# Altium integrated library TI Audio CODEC.IntLib: 199 symbols (part 15 of 17)
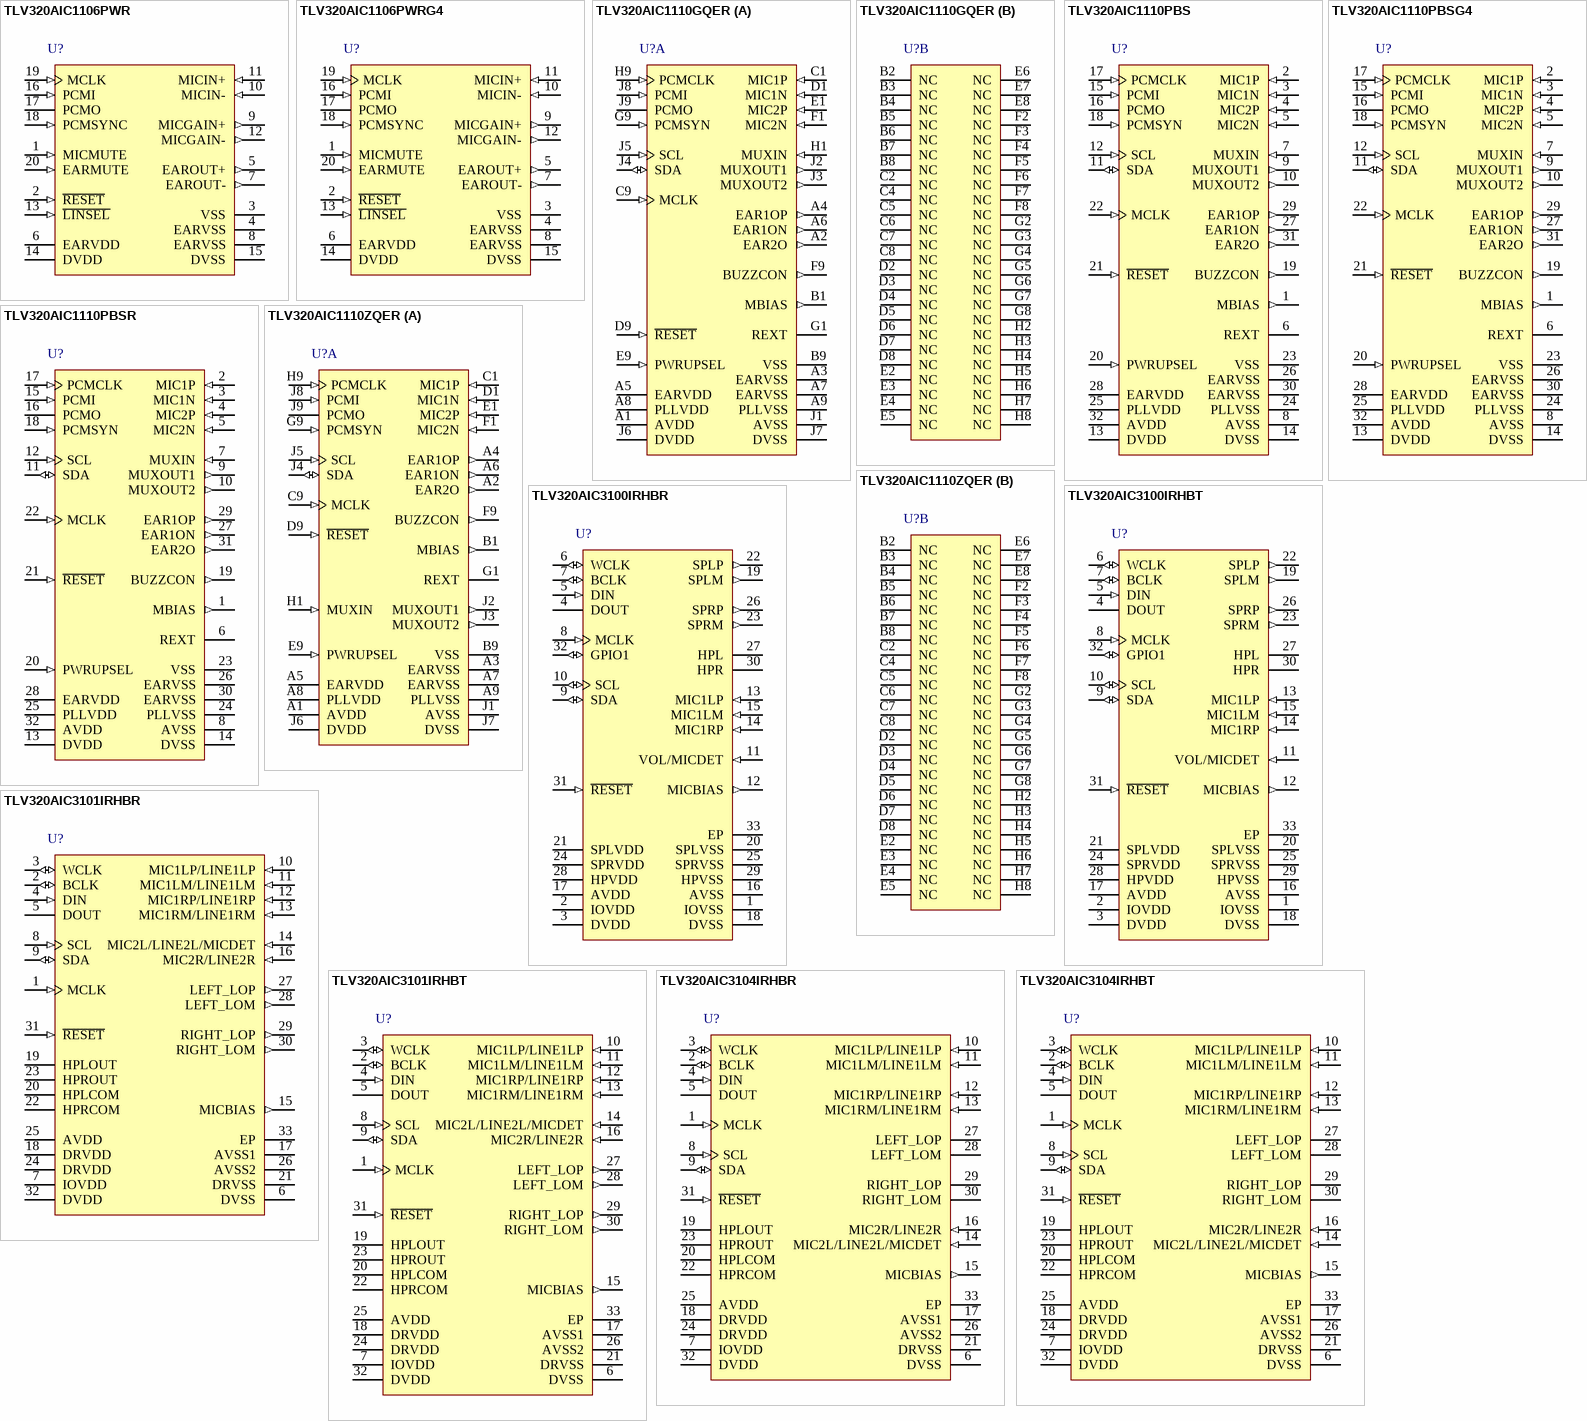
[diagram p27: symbols TLV320AIC1106PWR to TLV320AIC3104IRHBT]

## TLV320AIC1110GQER
designator U?
Programmable PCM CODEC with Microphone Amps & Speaker Driver, 1 ADC and 1 DAC, -40 to 85 degC, 80-pin BGA MICROSTAR JUNIOR (GQE); Manufacturer: Texas Instruments; PartNumber: TLV320AIC1110GQER; # ADCs (typ): 1; Additional Features: A-Law, u-Law; Battery Powered: TRUE; Control Interface: I2C; Sampling Rate (Max) (kHz): 8; DatasheetVersion: SLAS359; PackageVersion: Oct-2005; PackageReference: GQE80; PackageDescription: 80-Ball Plastic Ball Grid Array, 5 x 5 mm Body, 0.5 mm Pitch; Supplier 1: Digi-Key; Supplier Part Number 1: 296-12710-2-ND; Supplier 2: Digi-Key; Supplier Part Number 2: 296-12710-1-ND; Supplier 3: Digi-Key; Supplier Part Number 3: 296-12710-6-ND; Supplier 4: Newark; Supplier Part Number 4: 76C8706; Supplier 5: Mouser; Supplier Part Number 5: 595-TLV320AIC1110GQE; # DACs: 1; Digital Audio Interfaces: PCM; Headphone Driver: TRUE; Mounting Technology: Surface Mount; Code_JEDEC: MO-225; ComponentLink1Description: Datasheet; ComponentLink1URL: http://www.ti.com/general/docs/lit/getliterature.tsp?genericPartNumber=TLV320AIC1110&fileType=pdf
footprint GQE80 (BGA, 80-Leads, Body 5x5mm, Pitch 0.5mm)
part A pins: A1 AVDD (power) "Analog positive power supply", A2 EAR2O (out) "Earphone 2 amplifier output", A3 EARVSS (power) "Analog negative power supply for the earphone amplifiers", A4 EAR1OP (out) "Earphone 1 amplifier output (+)", A5 EARVDD (power) "Analog positive power supply for the earphone amplifiers", A6 EAR1ON (out) "Earphone 1 amplifier output (-)", A7 EARVSS (power) "Analog negative power supply for the earphone amplifiers", A8 PLLVDD (power) "PLL digital power supply", A9 PLLVSS (power) "PLL negative power supply", B1 MBIAS (out) "Microphone bias supply output, no decoupling capacitors", B9 VSS (power) "Ground return for bandgap internal reference (use for ground connection)", C1 MIC1P (in) "MIC1 input (+)", C9 MCLK (in) "Master system clock input (2.048 MHz, digital)", D1 MIC1N (in) "MIC1 input (-)", D9 ~{RESET} (in) "Active low reset", E1 MIC2P (in) "MIC2 input (+)", E9 PWRUPSEL (in) "Selects the power-up default mode", F1 MIC2N (in) "MIC2 input (-)", F9 BUZZCON (out) "Buzzer output, a pulse-density modulated signal to apply to external buzzer driver", G1 REXT "Internal reference current setting terminal (use precision 100-k ohm resistor and no filtering capacitors)", G9 PCMSYN (in) "PCM frame sync", H1 MUXIN (in) "Analog MUX input", H9 PCMCLK (in) "PCM data clock", J1 AVSS (power) "Analog negative power supply (use for ground connection)", J2 MUXOUT1 (out) "Analog MUX output", J3 MUXOUT2 (out) "Analog MUX output", J4 SDA (io) "I2C-bus serial address/data input/output. This is a bidirectional terminal used to transfer register control addresses and data into and out of the codec. It is an open-drain terminal and therefore requires a pullup resistor (See Datasheet)", J5 SCL (in) "I2C-bus serial clock. This input is used to synchronize the data transfer from and to the PCM codec.", J6 DVDD (power) "Digital positive power supply", J7 DVSS (power) "Digital negative power supply", J8 PCMI (in) "Receive PCM input", J9 PCMO (hiz) "Transmit PCM output"
part B pins: B2 NC "No internal connection", B3 NC "No internal connection", B4 NC "No internal connection", B5 NC "No internal connection", B6 NC "No internal connection", B7 NC "No internal connection", B8 NC "No internal connection", C2 NC "No internal connection", C4 NC "No internal connection", C5 NC "No internal connection", C6 NC "No internal connection", C7 NC "No internal connection", C8 NC "No internal connection", D2 NC "No internal connection", D3 NC "No internal connection", D4 NC "No internal connection", D5 NC "No internal connection", D6 NC "No internal connection", D7 NC "No internal connection", D8 NC "No internal connection", E2 NC "No internal connection", E3 NC "No internal connection", E4 NC "No internal connection", E5 NC "No internal connection", E6 NC "No internal connection", E7 NC "No internal connection", E8 NC "No internal connection", F2 NC "No internal connection", F3 NC "No internal connection", F4 NC "No internal connection", F5 NC "No internal connection", F6 NC "No internal connection", F7 NC "No internal connection", F8 NC "No internal connection", G2 NC "No internal connection", G3 NC "No internal connection", G4 NC "No internal connection", G5 NC "No internal connection", G6 NC "No internal connection", G7 NC "No internal connection", G8 NC "No internal connection", H2 NC "No internal connection", H3 NC "No internal connection", H4 NC "No internal connection", H5 NC "No internal connection", H6 NC "No internal connection", H7 NC "No internal connection", H8 NC "No internal connection"

## TLV320AIC1110PBS
designator U?
Programmable PCM CODEC with Microphone Amps & Speaker Driver, 1 ADC and 1 DAC, -40 to 85 degC, 32-pin TQFP (PBS), Green (RoHS & no Sb/Br); Manufacturer: Texas Instruments; PartNumber: TLV320AIC1110PBS; # ADCs (typ): 1; Additional Features: A-Law, u-Law; Battery Powered: TRUE; Control Interface: I2C; Sampling Rate (Max) (kHz): 8; DatasheetVersion: SLAS359; PackageVersion: Nov-1995; PackageReference: PBS32; PackageDescription: 32-Pin Thin Plastic Quad Flat Pack 0.5 mm Pitch; Supplier 1: Digi-Key; Supplier Part Number 1: 296-13508-ND; Supplier 2: Newark; Supplier Part Number 2: 76C8707; Supplier 3: Mouser; Supplier Part Number 3: 595-TLV320AIC1110PBS; # DACs: 1; Digital Audio Interfaces: PCM; Headphone Driver: TRUE; Mounting Technology: Surface Mount; Code_JEDEC: MS-026-AAA; ComponentLink1Description: Datasheet; ComponentLink1URL: http://www.ti.com/general/docs/lit/getliterature.tsp?genericPartNumber=TLV320AIC1110&fileType=pdf
footprint PBS32_N (Thin QFP, 32-Leads, Body 5x5mm, Pitch 0.5mm, IPC Medium Density)
footprint PBS32_L (Thin QFP, 32-Leads, Body 5x5mm, Pitch 0.5mm, IPC High Density)
footprint PBS32_M (Thin QFP, 32-Leads, Body 5x5mm, Pitch 0.5mm, IPC Low Density)
pins: 1 MBIAS (out) "Microphone bias supply output, no decoupling capacitors", 2 MIC1P (in) "MIC1 input (+)", 3 MIC1N (in) "MIC1 input (-)", 4 MIC2P (in) "MIC2 input (+)", 5 MIC2N (in) "MIC2 input (-)", 6 REXT "Internal reference current setting terminal (use precision 100-k ohm resistor and no filtering capacitors)", 7 MUXIN (in) "Analog MUX input", 8 AVSS (power) "Analog negative power supply (use for ground connection)", 9 MUXOUT1 (out) "Analog MUX output", 10 MUXOUT2 (out) "Analog MUX output", 11 SDA (io) "I2C-bus serial address/data input/output. This is a bidirectional terminal used to transfer register control addresses and data into and out of the codec. It is an open-drain terminal and therefore requires a pullup resistor (See Datasheet)", 12 SCL (in) "I2C-bus serial clock. This input is used to synchronize the data transfer from and to the PCM codec.", 13 DVDD (power) "Digital positive power supply", 14 DVSS (power) "Digital negative power supply", 15 PCMI (in) "Receive PCM input", 16 PCMO (hiz) "Transmit PCM output", 17 PCMCLK (in) "PCM data clock", 18 PCMSYN (in) "PCM frame sync", 19 BUZZCON (out) "Buzzer output, a pulse-density modulated signal to apply to external buzzer driver", 20 PWRUPSEL (in) "Selects the power-up default mode", 21 ~{RESET} (in) "Active low reset", 22 MCLK (in) "Master system clock input (2.048 MHz, digital)", 23 VSS (power) "Ground return for bandgap internal reference (use for ground connection)", 24 PLLVSS (power) "PLL negative power supply", 25 PLLVDD (power) "PLL digital power supply", 26 EARVSS (power) "Analog negative power supply for the earphone amplifiers", 27 EAR1ON (out) "Earphone 1 amplifier output (-)", 28 EARVDD (power) "Analog positive power supply for the earphone amplifiers", 29 EAR1OP (out) "Earphone 1 amplifier output (+)", 30 EARVSS (power) "Analog negative power supply for the earphone amplifiers", 31 EAR2O (out) "Earphone 2 amplifier output", 32 AVDD (power) "Analog positive power supply"

## TLV320AIC1110PBSG4
designator U?
Programmable PCM CODEC with Microphone Amps & Speaker Driver, 1 ADC and 1 DAC, -40 to 85 degC, 32-pin TQFP (PBS), Green (RoHS & no Sb/Br); Manufacturer: Texas Instruments; PartNumber: TLV320AIC1110PBSG4; # ADCs (typ): 1; Additional Features: A-Law, u-Law; Battery Powered: TRUE; Control Interface: I2C; Sampling Rate (Max) (kHz): 8; DatasheetVersion: SLAS359; PackageVersion: Nov-1995; PackageReference: PBS32; PackageDescription: 32-Pin Thin Plastic Quad Flat Pack 0.5 mm Pitch; Supplier 1: Digi-Key; Supplier Part Number 1: TLV320AIC1110PBSG4-ND; Supplier 2: Newark; Supplier Part Number 2: 66K4436; Supplier 3: Mouser; Supplier Part Number 3: 595-TLV320AIC1110PG4; # DACs: 1; Digital Audio Interfaces: PCM; Headphone Driver: TRUE; Mounting Technology: Surface Mount; Code_JEDEC: MS-026-AAA; ComponentLink1Description: Datasheet; ComponentLink1URL: http://www.ti.com/general/docs/lit/getliterature.tsp?genericPartNumber=TLV320AIC1110&fileType=pdf
footprint PBS32_N (Thin QFP, 32-Leads, Body 5x5mm, Pitch 0.5mm, IPC Medium Density)
footprint PBS32_L (Thin QFP, 32-Leads, Body 5x5mm, Pitch 0.5mm, IPC High Density)
footprint PBS32_M (Thin QFP, 32-Leads, Body 5x5mm, Pitch 0.5mm, IPC Low Density)
pins: 1 MBIAS (out) "Microphone bias supply output, no decoupling capacitors", 2 MIC1P (in) "MIC1 input (+)", 3 MIC1N (in) "MIC1 input (-)", 4 MIC2P (in) "MIC2 input (+)", 5 MIC2N (in) "MIC2 input (-)", 6 REXT "Internal reference current setting terminal (use precision 100-k ohm resistor and no filtering capacitors)", 7 MUXIN (in) "Analog MUX input", 8 AVSS (power) "Analog negative power supply (use for ground connection)", 9 MUXOUT1 (out) "Analog MUX output", 10 MUXOUT2 (out) "Analog MUX output", 11 SDA (io) "I2C-bus serial address/data input/output. This is a bidirectional terminal used to transfer register control addresses and data into and out of the codec. It is an open-drain terminal and therefore requires a pullup resistor (See Datasheet)", 12 SCL (in) "I2C-bus serial clock. This input is used to synchronize the data transfer from and to the PCM codec.", 13 DVDD (power) "Digital positive power supply", 14 DVSS (power) "Digital negative power supply", 15 PCMI (in) "Receive PCM input", 16 PCMO (hiz) "Transmit PCM output", 17 PCMCLK (in) "PCM data clock", 18 PCMSYN (in) "PCM frame sync", 19 BUZZCON (out) "Buzzer output, a pulse-density modulated signal to apply to external buzzer driver", 20 PWRUPSEL (in) "Selects the power-up default mode", 21 ~{RESET} (in) "Active low reset", 22 MCLK (in) "Master system clock input (2.048 MHz, digital)", 23 VSS (power) "Ground return for bandgap internal reference (use for ground connection)", 24 PLLVSS (power) "PLL negative power supply", 25 PLLVDD (power) "PLL digital power supply", 26 EARVSS (power) "Analog negative power supply for the earphone amplifiers", 27 EAR1ON (out) "Earphone 1 amplifier output (-)", 28 EARVDD (power) "Analog positive power supply for the earphone amplifiers", 29 EAR1OP (out) "Earphone 1 amplifier output (+)", 30 EARVSS (power) "Analog negative power supply for the earphone amplifiers", 31 EAR2O (out) "Earphone 2 amplifier output", 32 AVDD (power) "Analog positive power supply"

## TLV320AIC1110PBSR
designator U?
Programmable PCM CODEC with Microphone Amps & Speaker Driver, 1 ADC and 1 DAC, -40 to 85 degC, 32-pin TQFP (PBS), Green (RoHS & no Sb/Br); Manufacturer: Texas Instruments; PartNumber: TLV320AIC1110PBSR; # ADCs (typ): 1; Additional Features: A-Law, u-Law; Battery Powered: TRUE; Control Interface: I2C; Sampling Rate (Max) (kHz): 8; DatasheetVersion: SLAS359; PackageVersion: Nov-1995; PackageReference: PBS32; PackageDescription: 32-Pin Thin Plastic Quad Flat Pack 0.5 mm Pitch; Supplier 1: Digi-Key; Supplier Part Number 1: TLV320AIC1110PBSR-ND; Supplier 2: Newark; Supplier Part Number 2: 76C8708; Supplier 3: Mouser; Supplier Part Number 3: 595-TLV320AIC1110PSR; # DACs: 1; Digital Audio Interfaces: PCM; Headphone Driver: TRUE; Mounting Technology: Surface Mount; Code_JEDEC: MS-026-AAA; ComponentLink1Description: Datasheet; ComponentLink1URL: http://www.ti.com/general/docs/lit/getliterature.tsp?genericPartNumber=TLV320AIC1110&fileType=pdf
footprint PBS32_N (Thin QFP, 32-Leads, Body 5x5mm, Pitch 0.5mm, IPC Medium Density)
footprint PBS32_L (Thin QFP, 32-Leads, Body 5x5mm, Pitch 0.5mm, IPC High Density)
footprint PBS32_M (Thin QFP, 32-Leads, Body 5x5mm, Pitch 0.5mm, IPC Low Density)
pins: 1 MBIAS (out) "Microphone bias supply output, no decoupling capacitors", 2 MIC1P (in) "MIC1 input (+)", 3 MIC1N (in) "MIC1 input (-)", 4 MIC2P (in) "MIC2 input (+)", 5 MIC2N (in) "MIC2 input (-)", 6 REXT "Internal reference current setting terminal (use precision 100-k ohm resistor and no filtering capacitors)", 7 MUXIN (in) "Analog MUX input", 8 AVSS (power) "Analog negative power supply (use for ground connection)", 9 MUXOUT1 (out) "Analog MUX output", 10 MUXOUT2 (out) "Analog MUX output", 11 SDA (io) "I2C-bus serial address/data input/output. This is a bidirectional terminal used to transfer register control addresses and data into and out of the codec. It is an open-drain terminal and therefore requires a pullup resistor (See Datasheet)", 12 SCL (in) "I2C-bus serial clock. This input is used to synchronize the data transfer from and to the PCM codec.", 13 DVDD (power) "Digital positive power supply", 14 DVSS (power) "Digital negative power supply", 15 PCMI (in) "Receive PCM input", 16 PCMO (hiz) "Transmit PCM output", 17 PCMCLK (in) "PCM data clock", 18 PCMSYN (in) "PCM frame sync", 19 BUZZCON (out) "Buzzer output, a pulse-density modulated signal to apply to external buzzer driver", 20 PWRUPSEL (in) "Selects the power-up default mode", 21 ~{RESET} (in) "Active low reset", 22 MCLK (in) "Master system clock input (2.048 MHz, digital)", 23 VSS (power) "Ground return for bandgap internal reference (use for ground connection)", 24 PLLVSS (power) "PLL negative power supply", 25 PLLVDD (power) "PLL digital power supply", 26 EARVSS (power) "Analog negative power supply for the earphone amplifiers", 27 EAR1ON (out) "Earphone 1 amplifier output (-)", 28 EARVDD (power) "Analog positive power supply for the earphone amplifiers", 29 EAR1OP (out) "Earphone 1 amplifier output (+)", 30 EARVSS (power) "Analog negative power supply for the earphone amplifiers", 31 EAR2O (out) "Earphone 2 amplifier output", 32 AVDD (power) "Analog positive power supply"

## TLV320AIC1110ZQER
designator U?
Programmable PCM CODEC with Microphone Amps & Speaker Driver, 1 ADC and 1 DAC, -40 to 85 degC, 80-pin BGAMICROSTAR JUNIOR (ZQE), Green (RoHS & no Sb/Br); Manufacturer: Texas Instruments; PartNumber: TLV320AIC1110ZQER; # ADCs (typ): 1; Additional Features: A-Law, u-Law; Battery Powered: TRUE; Control Interface: I2C; Sampling Rate (Max) (kHz): 8; DatasheetVersion: SLAS359; PackageVersion: revF, Jul-2011; PackageReference: ZQE80; PackageDescription: 80-Ball Plastic Ball Grid Array, 5 x 5 mm Body, 0.5 mm Pitch; Supplier 1: Digi-Key; Supplier Part Number 1: 296-21865-2-ND; Supplier 2: Digi-Key; Supplier Part Number 2: 296-21865-1-ND; Supplier 3: Newark; Supplier Part Number 3: 31M0442; Supplier 4: Mouser; Supplier Part Number 4: 595-LV320AIC1110ZQER; # DACs: 1; Digital Audio Interfaces: PCM; Headphone Driver: TRUE; Mounting Technology: Surface Mount; Code_JEDEC: MO-225; ComponentLink1Description: Datasheet; ComponentLink1URL: http://www.ti.com/general/docs/lit/getliterature.tsp?genericPartNumber=TLV320AIC1110&fileType=pdf
footprint ZQE80 (BGA, 80-Leads, Body 5x5mm, Pitch 0.5mm)
part A pins: A1 AVDD (power) "Analog positive power supply", A2 EAR2O (out) "Earphone 2 amplifier output", A3 EARVSS (power) "Analog negative power supply for the earphone amplifiers", A4 EAR1OP (out) "Earphone 1 amplifier output (+)", A5 EARVDD (power) "Analog positive power supply for the earphone amplifiers", A6 EAR1ON (out) "Earphone 1 amplifier output (-)", A7 EARVSS (power) "Analog negative power supply for the earphone amplifiers", A8 PLLVDD (power) "PLL digital power supply", A9 PLLVSS (power) "PLL negative power supply", B1 MBIAS (out) "Microphone bias supply output, no decoupling capacitors", B9 VSS (power) "Ground return for bandgap internal reference (use for ground connection)", C1 MIC1P (in) "MIC1 input (+)", C9 MCLK (in) "Master system clock input (2.048 MHz, digital)", D1 MIC1N (in) "MIC1 input (-)", D9 ~{RESET} (in) "Active low reset", E1 MIC2P (in) "MIC2 input (+)", E9 PWRUPSEL (in) "Selects the power-up default mode", F1 MIC2N (in) "MIC2 input (-)", F9 BUZZCON (out) "Buzzer output, a pulse-density modulated signal to apply to external buzzer driver", G1 REXT "Internal reference current setting terminal (use precision 100-k ohm resistor and no filtering capacitors)", G9 PCMSYN (in) "PCM frame sync", H1 MUXIN (in) "Analog MUX input", H9 PCMCLK (in) "PCM data clock", J1 AVSS (power) "Analog negative power supply (use for ground connection)", J2 MUXOUT1 (out) "Analog MUX output", J3 MUXOUT2 (out) "Analog MUX output", J4 SDA (io) "I2C-bus serial address/data input/output. This is a bidirectional terminal used to transfer register control addresses and data into and out of the codec. It is an open-drain terminal and therefore requires a pullup resistor (See Datasheet)", J5 SCL (in) "I2C-bus serial clock. This input is used to synchronize the data transfer from and to the PCM codec.", J6 DVDD (power) "Digital positive power supply", J7 DVSS (power) "Digital negative power supply", J8 PCMI (in) "Receive PCM input", J9 PCMO (hiz) "Transmit PCM output"
part B pins: B2 NC "No internal connection.", B3 NC "No internal connection.", B4 NC "No internal connection.", B5 NC "No internal connection.", B6 NC "No internal connection.", B7 NC "No internal connection.", B8 NC "No internal connection.", C2 NC "No internal connection.", C4 NC "No internal connection.", C5 NC "No internal connection.", C6 NC "No internal connection.", C7 NC "No internal connection.", C8 NC "No internal connection.", D2 NC "No internal connection.", D3 NC "No internal connection.", D4 NC "No internal connection.", D5 NC "No internal connection.", D6 NC "No internal connection.", D7 NC "No internal connection.", D8 NC "No internal connection.", E2 NC "No internal connection.", E3 NC "No internal connection.", E4 NC "No internal connection.", E5 NC "No internal connection.", E6 NC "No internal connection.", E7 NC "No internal connection.", E8 NC "No internal connection.", F2 NC "No internal connection.", F3 NC "No internal connection.", F4 NC "No internal connection.", F5 NC "No internal connection.", F6 NC "No internal connection.", F7 NC "No internal connection.", F8 NC "No internal connection.", G2 NC "No internal connection.", G3 NC "No internal connection.", G4 NC "No internal connection.", G5 NC "No internal connection.", G6 NC "No internal connection.", G7 NC "No internal connection.", G8 NC "No internal connection.", H2 NC "No internal connection.", H3 NC "No internal connection.", H4 NC "No internal connection.", H5 NC "No internal connection.", H6 NC "No internal connection.", H7 NC "No internal connection.", H8 NC "No internal connection."

## TLV320AIC3100IRHBR
designator U?
Low-Power Audio CODEC with Audio Processing and Mono Class-D Amplifier, 1 ADC and 2 DACs, 95 dB DAC SNR, -40 to 85 degC, 32-pin QFN (RHB), Green (RoHS & no Sb/Br); Manufacturer: Texas Instruments; PartNumber: TLV320AIC3100IRHBR; # ADCs (typ): 1; # DACs: 2; Additional Features: PLL, Mono Class-D Speaker Amplifier, Digital Mic Support; Battery Powered: TRUE; Control Interface: I2C; DAC SNR: 95; Digital Audio Interfaces: L, R, I2S, TDM, DSP; Sampling Rate (Max) (kHz): 192; Speaker Amp Output Power(Max)(W): 2.5; DatasheetVersion: SLAS667A; PackageVersion: revD, Jun-2011; PackageReference: RHB32-3450X3450TP; PackageDescription: 32-Pin Plastic Quad Flat No-Lead, 5 x 5 mm Body, 0.5 mm Pitch, 3.45 x 3.45 mm Exposed Pad; Supplier 1: Digi-Key; Supplier Part Number 1: 296-25494-2-ND; Supplier 2: Digi-Key; Supplier Part Number 2: 296-25494-1-ND; Supplier 3: Digi-Key; Supplier Part Number 3: 296-25494-6-ND; Supplier 4: Newark; Supplier Part Number 4: 64R0670; Supplier 5: Mouser; Supplier Part Number 5: 595-V320AIC3100IRHBR; Headphone Driver: TRUE; Speaker Amp Ouputs: 1; Speaker Amp Type: Class-D; Mounting Technology: Surface Mount; Code_JEDEC: MO-220; ComponentLink1Description: Datasheet; ComponentLink1URL: http://www.ti.com/general/docs/lit/getliterature.tsp?genericPartNumber=TLV320AIC3100&fileType=pdf
footprint RHB32-3450X3450TP (QFN, 32-Leads, Body 5x5mm, Pitch 0.5mm, Thermal Pad 3.45x3.45mm, TI Recommended)
pins: 1 IOVSS (power) "Interface ground", 2 IOVDD (power) "Interface power", 3 DVDD (power) "Digital power - digital core", 4 DOUT (hiz) "Audio serial data output", 5 DIN (in) "Audio serial data input", 6 WCLK (io) "Audio serial word clock", 7 BCLK (io) "Audio serial bit clock", 8 MCLK (in) "External master clock", 9 SDA (io) "I2C control bus data input", 10 SCL (io) "I2C control bus clock input", 11 VOL/MICDET (in) "Volume control or microphone detection", 12 MICBIAS (out) "Micophone bias voltage", 13 MIC1LP (in) "Microphone/line input routed to P input mixer and left output mixer", 14 MIC1RP (in) "Microphone/line input routed to P input mixer and left/right output mixer", 15 MIC1LM (in) "Microphone/line input routed to M or P input mixer", 16 AVSS (power) "Analog ground", 17 AVDD (power) "Analog power supply", 18 DVSS (power) "Digital ground", 19 SPLM (out) "Left-channel class-D speaker-driver inverting output", 20 SPLVSS (power) "Left-channel class-D speaker-driver power supply ground", 21 SPLVDD (power) "Left-channel class-D speaker-driver power supply", 22 SPLP (out) "Left-channel class-D speaker-driver noninverting output", 23 SPRM (out) "Right-channel class-D speaker-driver inverting output", 24 SPRVDD (power) "Right-channel class-D speaker-driver power supply", 25 SPRVSS (power) "Right-channel class-D speaker-driver power-supply ground", 26 SPRP (out) "Right-channel class-D speaker-driver noninverting output", 27 HPL (hiz) "Left-channel headphone/line driver output", 28 HPVDD (power) "Headphone/line driver and PLL power", 29 HPVSS (power) "Headphone/line driver and PLL ground", 30 HPR (hiz) "Right-channel headphone/line driver output", 31 ~{RESET} (in) "Device reset", 32 GPIO1 (io) "General-purpose input/output and multifunction pin", 33 EP "Exposed pad."

## TLV320AIC3100IRHBT
designator U?
Low-Power Audio CODEC with Audio Processing and Mono Class-D Amplifier, 1 ADC and 2 DACs, 95 dB DAC SNR, -40 to 85 degC, 32-pin QFN (RHB), Green (RoHS & no Sb/Br); Manufacturer: Texas Instruments; PartNumber: TLV320AIC3100IRHBT; # ADCs (typ): 1; # DACs: 2; Additional Features: PLL, Mono Class-D Speaker Amplifier, Digital Mic Support; Battery Powered: TRUE; Control Interface: I2C; DAC SNR: 95; Digital Audio Interfaces: L, R, I2S, TDM, DSP; Sampling Rate (Max) (kHz): 192; Speaker Amp Output Power(Max)(W): 2.5; DatasheetVersion: SLAS647B; PackageVersion: revD, Jun-2011; PackageReference: RHB32-3450X3450TP; PackageDescription: 32-Pin Plastic Quad Flat No-Lead, 5 x 5 mm Body, 0.5 mm Pitch, 3.45 x 3.45 mm Exposed Pad; Supplier 1: Digi-Key; Supplier Part Number 1: TLV320AIC3100IRHBT-ND; Supplier 2: Newark; Supplier Part Number 2: 64R0671; Supplier 3: Mouser; Supplier Part Number 3: 595-V320AIC3100IRHBT; Headphone Driver: TRUE; Speaker Amp Ouputs: 1; Speaker Amp Type: Class-D; Mounting Technology: Surface Mount; Code_JEDEC: MO-220; ComponentLink1Description: Datasheet; ComponentLink1URL: http://www.ti.com/general/docs/lit/getliterature.tsp?genericPartNumber=TLV320AIC3110&fileType=pdf
footprint RHB32-3450X3450TP (QFN, 32-Leads, Body 5x5mm, Pitch 0.5mm, Thermal Pad 3.45x3.45mm, TI Recommended)
pins: 1 IOVSS (power) "Interface ground", 2 IOVDD (power) "Interface power", 3 DVDD (power) "Digital power - digital core", 4 DOUT (hiz) "Audio serial data output", 5 DIN (in) "Audio serial data input", 6 WCLK (io) "Audio serial word clock", 7 BCLK (io) "Audio serial bit clock", 8 MCLK (in) "External master clock", 9 SDA (io) "I2C control bus data input", 10 SCL (io) "I2C control bus clock input", 11 VOL/MICDET (in) "Volume control or microphone detection", 12 MICBIAS (out) "Micophone bias voltage", 13 MIC1LP (in) "Microphone/line input routed to P input mixer and left output mixer", 14 MIC1RP (in) "Microphone/line input routed to P input mixer and left/right output mixer", 15 MIC1LM (in) "Microphone/line input routed to M or P input mixer", 16 AVSS (power) "Analog ground", 17 AVDD (power) "Analog power supply", 18 DVSS (power) "Digital ground", 19 SPLM (out) "Left-channel class-D speaker-driver inverting output", 20 SPLVSS (power) "Left-channel class-D speaker-driver power supply ground", 21 SPLVDD (power) "Left-channel class-D speaker-driver power supply", 22 SPLP (out) "Left-channel class-D speaker-driver noninverting output", 23 SPRM (out) "Right-channel class-D speaker-driver inverting output", 24 SPRVDD (power) "Right-channel class-D speaker-driver power supply", 25 SPRVSS (power) "Right-channel class-D speaker-driver power-supply ground", 26 SPRP (out) "Right-channel class-D speaker-driver noninverting output", 27 HPL (hiz) "Left-channel headphone/line driver output", 28 HPVDD (power) "Headphone/line driver and PLL power", 29 HPVSS (power) "Headphone/line driver and PLL ground", 30 HPR (hiz) "Right-channel headphone/line driver output", 31 ~{RESET} (in) "Device reset", 32 GPIO1 (io) "General-purpose input/output and multifunction pin", 33 EP "Exposed pad."

## TLV320AIC3101IRHBR
designator U?
Low-Power Stereo CODEC with 6 Inputs, 6 Outputs, Speaker / HP Amp and Enhanced Digital Effects, 2 ADCs and 2 DACs, 102 dB DAC SNR, -40 to 85 degC, 33-pin QFN (RHB), Green (RoHS & no Sb/Br); Manufacturer: Texas Instruments; PartNumber: TLV320AIC3101IRHBR; # ADCs (typ): 2; Additional Features: LP Bypass, Notch Filtering, 3D, EQ, Matrix Mixing, PLL, Stereo Speaker Amplifier; Battery Powered: TRUE; Control Interface: I2C; DAC SNR: 102; Digital Audio Interfaces: L, R, I2S, DSP, TDM; Sampling Rate (Max) (kHz): 96; Speaker Amp Output Power(Max)(W): 0.5; Speaker Amp Type: Class-AB; DatasheetVersion: SLAS520D; PackageVersion: revD, Jun-2011; PackageReference: RHB32-3450X3450TP; PackageDescription: 32-Pin Plastic Quad Flat No-Lead, 5 x 5 mm Body, 0.5 mm Pitch, 3.45 x 3.45 mm Exposed Pad; Supplier 1: Digi-Key; Supplier Part Number 1: TLV320AIC3101IRHBR-ND; Supplier 2: Newark; Supplier Part Number 2: 48M0945; Supplier 3: Mouser; Supplier Part Number 3: 595-T320AIC3101IRHBR; # DACs: 2; Speaker Amp Ouputs: 2; Mounting Technology: Surface Mount; Code_JEDEC: MO-220; ComponentLink1Description: Datasheet; ComponentLink1URL: http://www.ti.com/general/docs/lit/getliterature.tsp?genericPartNumber=TLV320AIC3101&fileType=pdf
footprint RHB32-3450X3450TP (QFN, 32-Leads, Body 5x5mm, Pitch 0.5mm, Thermal Pad 3.45x3.45mm, TI Recommended)
pins: 1 MCLK (in) "Master clock input", 2 BCLK (io) "Audio serial data bus bit clock input/output", 3 WCLK (io) "Audio serial data bus word clock input/output", 4 DIN (in) "Audio serial data bus data input", 5 DOUT (hiz) "Audio serial data bus data output", 6 DVSS (power) "Digital core / I/O ground supply, 0 V", 7 IOVDD (power) "Digital I/O voltage supply, 1.1 V-3.6 V", 8 SCL (in) "I2C serial clock input", 9 SDA (io) "I2C serial data input/output", 10 MIC1LP/LINE1LP (in) "Left input 1 (SE) or left input + (diff)", 11 MIC1LM/LINE1LM (in) "Left input - (diff only)", 12 MIC1RP/LINE1RP (in) "Right input 1 (SE) or right input + (diff)", 13 MIC1RM/LINE1RM (in) "Right input - (diff only)", 14 MIC2L/LINE2L/MICDET (in) "Left input 2 (SE); can support microphone detection", 15 MICBIAS (out) "Microphone bias voltage output", 16 MIC2R/LINE2R (in) "Right input 2 (SE)", 17 AVSS1 (power) "Analog ADC ground supply, 0 V", 18 DRVDD (power) "Analog ADC and output driver voltage supply, 2.7 V-3.6 V", 19 HPLOUT (hiz) "High-power output driver (left +)", 20 HPLCOM (hiz) "High-power output driver (left - or multifunctional)", 21 DRVSS (power) "Analog output driver ground supply, 0 V", 22 HPRCOM (hiz) "High-power output driver (right - or multifunctional)", 23 HPROUT (hiz) "High-power output driver (right +)", 24 DRVDD (power) "Analog output driver voltage supply, 2.7 V-3.6 V", 25 AVDD (power) "Analog DAC voltage supply, 2.7 V-3.6 V", 26 AVSS2 (power) "Analog DAC ground supply, 0 V", 27 LEFT_LOP (out) "Left line output (+)", 28 LEFT_LOM (out) "Left line output (-)", 29 RIGHT_LOP (out) "Right line output (+)", 30 RIGHT_LOM (out) "Right line output (-)", 31 ~{RESET} (in) "Reset", 32 DVDD (power) "Digital core voltage supply, 1.525 V-1.95 V", 33 EP (power) "Connect device thermal pad to DRVSS."

## TLV320AIC3101IRHBT
designator U?
Low-Power Stereo CODEC with 6 Inputs, 6 Outputs, Speaker / HP Amp and Enhanced Digital Effects, 2 ADCs and 2 DACs, 102 dB DAC SNR, -40 to 85 degC, 32-pin QFN (RHB), Green (RoHS & no Sb/Br); Manufacturer: Texas Instruments; PartNumber: TLV320AIC3101IRHBT; # ADCs (typ): 2; Additional Features: LP Bypass, Notch Filtering, 3D, EQ, Matrix Mixing, PLL, Stereo Speaker Amplifier; Battery Powered: TRUE; Control Interface: I2C; DAC SNR: 102; Digital Audio Interfaces: L, R, I2S, DSP, TDM; Sampling Rate (Max) (kHz): 96; Speaker Amp Output Power(Max)(W): 0.5; Speaker Amp Type: Class-AB; DatasheetVersion: SLAS520D; PackageVersion: revD, Jun-2011; PackageReference: RHB32-3450X3450TP; PackageDescription: 32-Pin Plastic Quad Flat No-Lead, 5 x 5 mm Body, 0.5 mm Pitch, 3.45 x 3.45 mm Exposed Pad; Supplier 1: Digi-Key; Supplier Part Number 1: 296-21969-2-ND; Supplier 2: Digi-Key; Supplier Part Number 2: 296-21969-1-ND; Supplier 3: Digi-Key; Supplier Part Number 3: 296-21969-6-ND; Supplier 4: Farnell; Supplier Part Number 4: 2075402; Supplier 5: Newark; Supplier Part Number 5: 82T3153; Supplier 6: Newark; Supplier Part Number 6: 48M0946; Supplier 7: Mouser; Supplier Part Number 7: 595-T320AIC3101IRHBT; # DACs: 2; Headphone Driver: TRUE; Speaker Amp Ouputs: 2; Mounting Technology: Surface Mount; Code_JEDEC: MO-220; ComponentLink1Description: Datasheet; ComponentLink1URL: http://www.ti.com/general/docs/lit/getliterature.tsp?genericPartNumber=TLV320AIC3101&fileType=pdf
footprint RHB32-3450X3450TP (QFN, 32-Leads, Body 5x5mm, Pitch 0.5mm, Thermal Pad 3.45x3.45mm, TI Recommended)
pins: 1 MCLK (in) "Master clock input", 2 BCLK (io) "Audio serial data bus bit clock input/output", 3 WCLK (io) "Audio serial data bus word clock input/output", 4 DIN (in) "Audio serial data bus data input", 5 DOUT (hiz) "Audio serial data bus data output", 6 DVSS (power) "Digital core / I/O ground supply, 0 V", 7 IOVDD (power) "Digital I/O voltage supply, 1.1 V-3.6 V", 8 SCL (in) "I2C serial clock input", 9 SDA (io) "I2C serial data input/output", 10 MIC1LP/LINE1LP (in) "Left input 1 (SE) or left input + (diff)", 11 MIC1LM/LINE1LM (in) "Left input - (diff only)", 12 MIC1RP/LINE1RP (in) "Right input 1 (SE) or right input + (diff)", 13 MIC1RM/LINE1RM (in) "Right input - (diff only)", 14 MIC2L/LINE2L/MICDET (in) "Left input 2 (SE); can support microphone detection", 15 MICBIAS (out) "Microphone bias voltage output", 16 MIC2R/LINE2R (in) "Right input 2 (SE)", 17 AVSS1 (power) "Analog ADC ground supply, 0 V", 18 DRVDD (power) "Analog ADC and output driver voltage supply, 2.7 V-3.6 V", 19 HPLOUT (hiz) "High-power output driver (left +)", 20 HPLCOM (hiz) "High-power output driver (left - or multifunctional)", 21 DRVSS (power) "Analog output driver ground supply, 0 V", 22 HPRCOM (hiz) "High-power output driver (right - or multifunctional)", 23 HPROUT (hiz) "High-power output driver (right +)", 24 DRVDD (power) "Analog output driver voltage supply, 2.7 V-3.6 V", 25 AVDD (power) "Analog DAC voltage supply, 2.7 V-3.6 V", 26 AVSS2 (power) "Analog DAC ground supply, 0 V", 27 LEFT_LOP (out) "Left line output (+)", 28 LEFT_LOM (out) "Left line output (-)", 29 RIGHT_LOP (out) "Right line output (+)", 30 RIGHT_LOM (out) "Right line output (-)", 31 ~{RESET} (in) "Reset", 32 DVDD (power) "Digital core voltage supply, 1.525 V-1.95 V", 33 EP (power) "Connect device thermal pad to DRVSS."

## TLV320AIC3104IRHBR
designator U?
Low-Power Stereo CODEC with 6 Inputs, 6 Outputs, HP Amp and Enhanced Digital Effects, 2 ADCs and 2 DACs, 102 dB DAC SNR, -40 to 85 degC, 32-pin QFN (RHB), Green (RoHS & no Sb/Br); Manufacturer: Texas Instruments; PartNumber: TLV320AIC3104IRHBR; # ADCs (typ): 2; Additional Features: LP Bypass, Notch Filtering, 3D, EQ, Matrix Mixing, PLL; Battery Powered: TRUE; Control Interface: I2C; DAC SNR: 102; Digital Audio Interfaces: L, R, I2S, DSP, TDM; Sampling Rate (Max) (kHz): 96; DatasheetVersion: SLAS510C; PackageVersion: revD, Jun-2011; PackageReference: RHB32-3450X3450TP; PackageDescription: 32-Pin Plastic Quad Flat No-Lead, 5 x 5 mm Body, 0.5 mm Pitch, 3.45 x 3.45 mm Exposed Pad; Supplier 1: Digi-Key; Supplier Part Number 1: 296-26818-2-ND; Supplier 2: Digi-Key; Supplier Part Number 2: 296-26818-1-ND; Supplier 3: Digi-Key; Supplier Part Number 3: 296-26818-6-ND; Supplier 4: Newark; Supplier Part Number 4: 52M6077; Supplier 5: Mouser; Supplier Part Number 5: 595-TLV320C3104IRHBR; # DACs: 2; Mounting Technology: Surface Mount; Code_JEDEC: MO-220; ComponentLink1Description: Datasheet; ComponentLink1URL: http://www.ti.com/general/docs/lit/getliterature.tsp?genericPartNumber=TLV320AIC3104&fileType=pdf
footprint RHB32-3450X3450TP (QFN, 32-Leads, Body 5x5mm, Pitch 0.5mm, Thermal Pad 3.45x3.45mm, TI Recommended)
pins: 1 MCLK (in) "Master clock input", 2 BCLK (io) "Audio serial data bus bit clock input/output", 3 WCLK (io) "Audio serial data bus word clock inout/output", 4 DIN (in) "Audio serial data bus data input", 5 DOUT (hiz) "Audio serial data bus data output", 6 DVSS (power) "Digital core I/O ground supply,0V", 7 IOVDD (power) "Digital I/O voltage supply,1.1V-3.6V", 8 SCL (in) "I2C serial clock input", 9 SDA (io) "I2C serial data input/output", 10 MIC1LP/LINE1LP (in) "Left input 1(SE) or left input + (diff)", 11 MIC1LM/LINE1LM (in) "Left input-(diff only)", 12 MIC1RP/LINE1RP (in) "Right input 1(SE) or right input + (diff)", 13 MIC1RM/LINE1RM (in) "Right input- (diff only)", 14 MIC2L/LINE2L/MICDET (in) "Left input 2(SE);can support microphone detection", 15 MICBIAS (out) "Microphone bias voltage output", 16 MIC2R/LINE2R (in) "Right input 2 (SE)", 17 AVSS1 (power) "Analog ADC ground supply,0V", 18 DRVDD (power) "Analog ADC and output driver voltage supply,2.7V-3.6V", 19 HPLOUT (hiz) "High-power output driver(left+)", 20 HPLCOM (hiz) "High-power output driver(left- or multi-functional)", 21 DRVSS (power) "Analog output driver ground supply,0V", 22 HPRCOM (hiz) "High-power output driver (right- or multi-functional)", 23 HPROUT (hiz) "High-power output driver(right+)", 24 DRVDD (power) "Analog output driver voltage supply,2.7V-3.6V", 25 AVDD (power) "Analog DAC voltage supply,2.7V-3.6V", 26 AVSS2 (power) "Analog DAC ground supply,0V", 27 LEFT_LOP (hiz) "Left line output(+)", 28 LEFT_LOM (hiz) "Left line output(-)", 29 RIGHT_LOP (hiz) "Right line output (+)", 30 RIGHT_LOM (hiz) "Right line output (-)", 31 ~{RESET} (in) "Reset", 32 DVDD (power) "Digital core voltage supply,1.525V-1.95V", 33 EP (power) "Exposed Thermal Pad"

## TLV320AIC3104IRHBT
designator U?
Low-Power Stereo CODEC with 6 Inputs, 6 Outputs, HP Amp and Enhanced Digital Effects, 2 ADCs and 2 DACs, 102 dB DAC SNR, -40 to 85 degC, 32-pin QFN (RHB), Green (RoHS & no Sb/Br); Manufacturer: Texas Instruments; PartNumber: TLV320AIC3104IRHBT; # ADCs (typ): 2; Additional Features: LP Bypass, Notch Filtering, 3D, EQ, Matrix Mixing, PLL; Battery Powered: TRUE; Control Interface: I2C; DAC SNR: 102; Digital Audio Interfaces: L, R, I2S, DSP, TDM; Sampling Rate (Max) (kHz): 96; DatasheetVersion: SLAS510C; PackageVersion: revD, Jun-2011; PackageReference: RHB32-3450X3450TP; PackageDescription: 32-Pin Plastic Quad Flat No-Lead, 5 x 5 mm Body, 0.5 mm Pitch, 3.45 x 3.45 mm Exposed Pad; Supplier 1: Digi-Key; Supplier Part Number 1: 296-22847-2-ND; Supplier 2: Digi-Key; Supplier Part Number 2: 296-22847-1-ND; Supplier 3: Digi-Key; Supplier Part Number 3: 296-22847-6-ND; Supplier 4: Farnell; Supplier Part Number 4: 1494889; Supplier 5: Newark; Supplier Part Number 5: 89T7857; Supplier 6: Newark; Supplier Part Number 6: 62M0541; Supplier 7: Newark; Supplier Part Number 7: 52M6078; Supplier 8: Mouser; Supplier Part Number 8: 595-TLV320C3104IRHBT; # DACs: 2; Mounting Technology: Surface Mount; Code_JEDEC: MO-220; ComponentLink1Description: Datasheet; ComponentLink1URL: http://www.ti.com/general/docs/lit/getliterature.tsp?genericPartNumber=TLV320AIC3104&fileType=pdf
footprint RHB32-3450X3450TP (QFN, 32-Leads, Body 5x5mm, Pitch 0.5mm, Thermal Pad 3.45x3.45mm, TI Recommended)
pins: 1 MCLK (in) "Master clock input", 2 BCLK (io) "Audio serial data bus bit clock input/output", 3 WCLK (io) "Audio serial data bus word clock inout/output", 4 DIN (in) "Audio serial data bus data input", 5 DOUT (hiz) "Audio serial data bus data output", 6 DVSS (power) "Digital core I/O ground supply,0V", 7 IOVDD (power) "Digital I/O voltage supply,1.1V-3.6V", 8 SCL (in) "I2C serial clock input", 9 SDA (io) "I2C serial data input/output", 10 MIC1LP/LINE1LP (in) "Left input 1(SE) or left input + (diff)", 11 MIC1LM/LINE1LM (in) "Left input-(diff only)", 12 MIC1RP/LINE1RP (in) "Right input 1(SE) or right input + (diff)", 13 MIC1RM/LINE1RM (in) "Right input- (diff only)", 14 MIC2L/LINE2L/MICDET (in) "Left input 2(SE);can support microphone detection", 15 MICBIAS (out) "Microphone bias voltage output", 16 MIC2R/LINE2R (in) "Right input 2 (SE)", 17 AVSS1 (power) "Analog ADC ground supply,0V", 18 DRVDD (power) "Analog ADC and output driver voltage supply,2.7V-3.6V", 19 HPLOUT (hiz) "High-power output driver(left+)", 20 HPLCOM (hiz) "High-power output driver(left- or multi-functional)", 21 DRVSS (power) "Analog output driver ground supply,0V", 22 HPRCOM (hiz) "High-power output driver (right- or multi-functional)", 23 HPROUT (hiz) "High-power output driver(right+)", 24 DRVDD (power) "Analog output driver voltage supply,2.7V-3.6V", 25 AVDD (power) "Analog DAC voltage supply,2.7V-3.6V", 26 AVSS2 (power) "Analog DAC ground supply,0V", 27 LEFT_LOP (hiz) "Left line output(+)", 28 LEFT_LOM (hiz) "Left line output(-)", 29 RIGHT_LOP (hiz) "Right line output (+)", 30 RIGHT_LOM (hiz) "Right line output (-)", 31 ~{RESET} (in) "Reset", 32 DVDD (power) "Digital core voltage supply,1.525V-1.95V", 33 EP (power) "Exposed Thermal Pad"

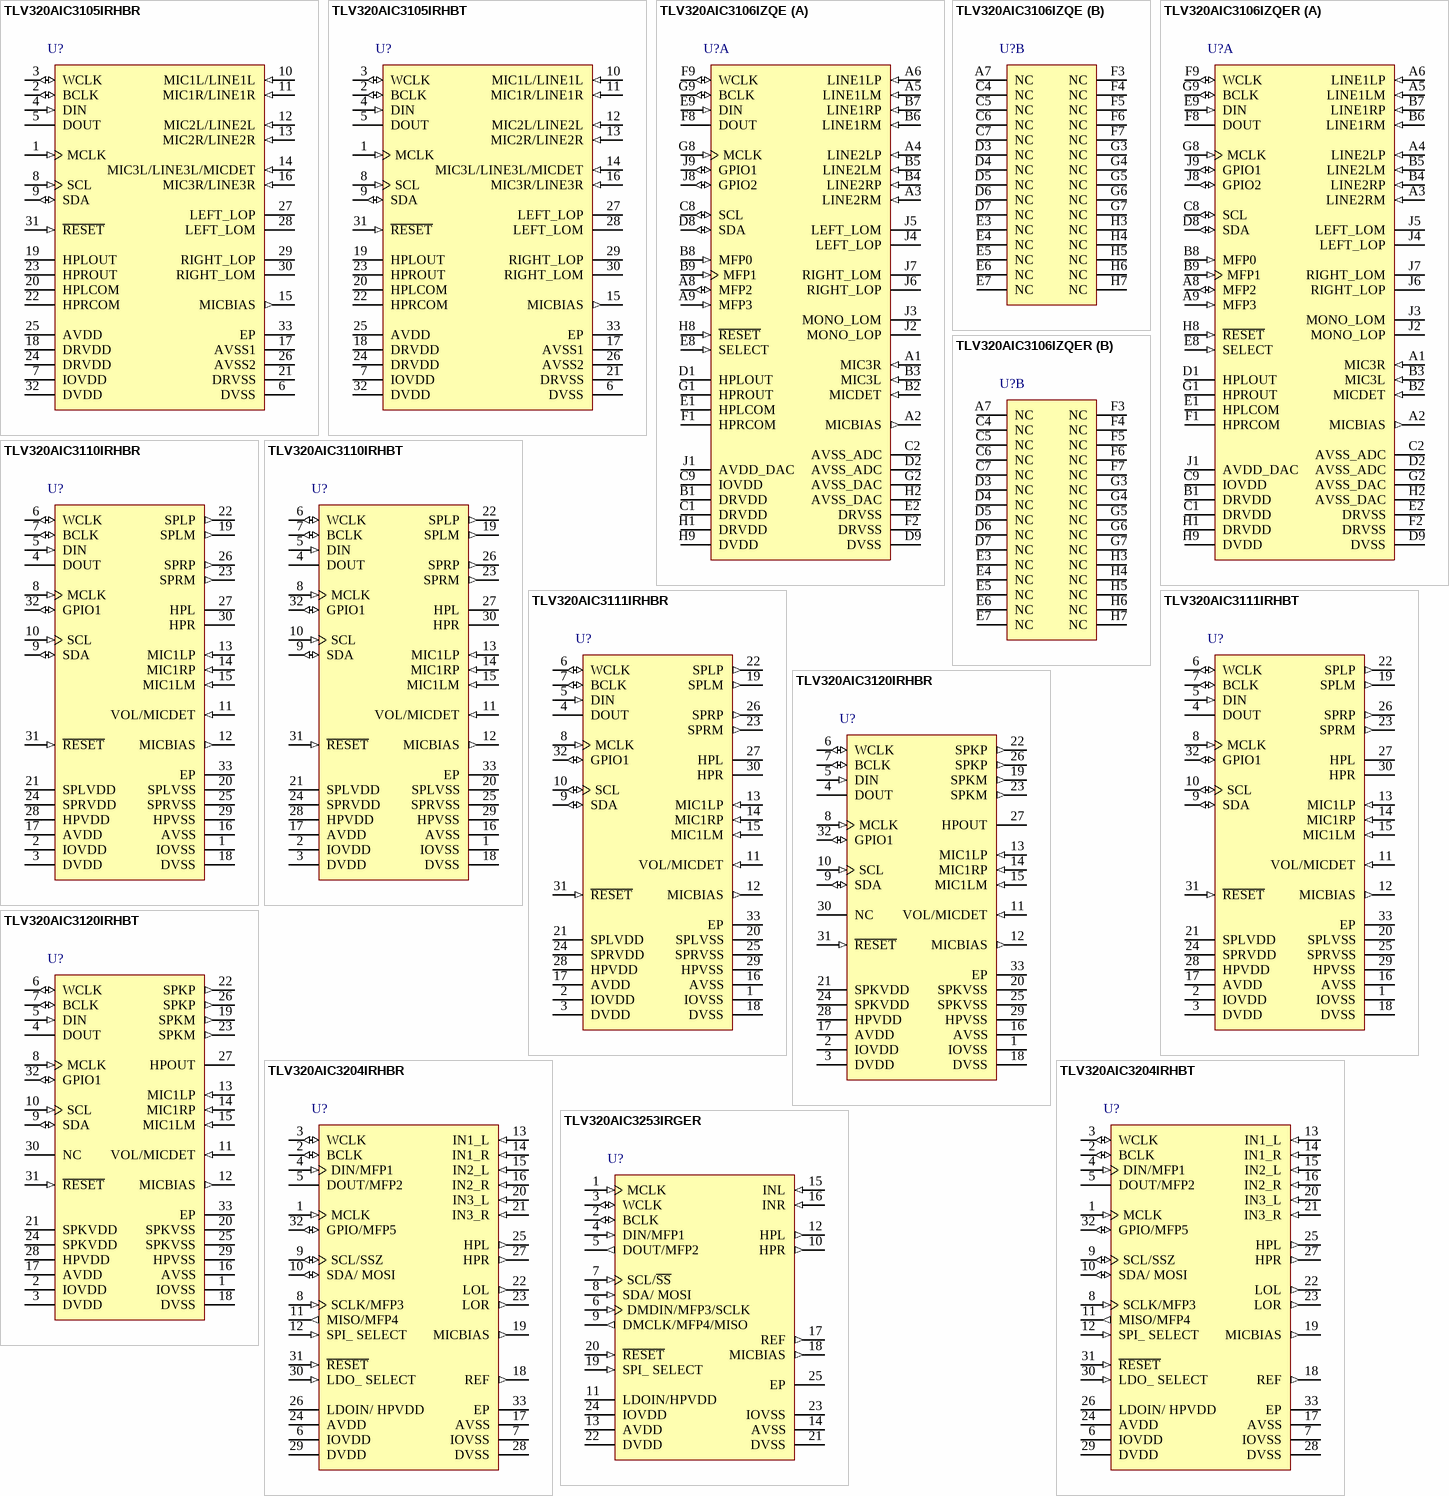
[diagram p12: symbols TLV320AIC3105IRHBR to TLV320AIC3253IRGER]

## TLV320AIC3105IRHBR
designator U?
Low-Power Stereo CODEC with 6 Inputs, 6 Outputs, HP Amp and Enhanced Digital Effects, 2 ADCs and 2 DACs, 102 dB DAC SNR, -40 to 85 degC, 32-pin QFN (RHB), Green (RoHS & no Sb/Br); Manufacturer: Texas Instruments; PartNumber: TLV320AIC3105IRHBR; # ADCs (typ): 2; Additional Features: LP Bypass, Notch Filtering, 3D, EQ, Matrix Mixing, PLL; Battery Powered: TRUE; Control Interface: I2C; DAC SNR: 102; Digital Audio Interfaces: L, R, I2S, DSP, TDM; Sampling Rate (Max) (kHz): 96; DatasheetVersion: SLAS513B; PackageVersion: revD, Jun-2011; PackageReference: RHB32-3450X3450TP; PackageDescription: 32-Pin Plastic Quad Flat No-Lead, 5 x 5 mm Body, 0.5 mm Pitch, 3.45 x 3.45 mm Exposed Pad; Supplier 1: Digi-Key; Supplier Part Number 1: TLV320AIC3105IRHBR-ND; Supplier 2: Newark; Supplier Part Number 2: 52M6079; Supplier 3: Mouser; Supplier Part Number 3: 595-TLV320C3105IRHBR; # DACs: 2; Mounting Technology: Surface Mount; Code_JEDEC: MO-220; ComponentLink1Description: Datasheet; ComponentLink1URL: http://www.ti.com/general/docs/lit/getliterature.tsp?genericPartNumber=TLV320AIC3105&fileType=pdf
footprint RHB32-3450X3450TP (QFN, 32-Leads, Body 5x5mm, Pitch 0.5mm, Thermal Pad 3.45x3.45mm, TI Recommended)
pins: 1 MCLK (in) "Master clock input", 2 BCLK (io) "Audio serial data bus bit clock input/output", 3 WCLK (io) "Audio serial data bus word clock input/output", 4 DIN (in) "Audio serial data bus data input", 5 DOUT (hiz) "Audio serial data bus data output", 6 DVSS (power) "Digital core / I/O ground supply, 0 V", 7 IOVDD (power) "Digital I/O voltage supply, 1.1 V-3.6 V", 8 SCL (in) "I2C serial clock input", 9 SDA (io) "I2C serial data input/output", 10 MIC1L/LINE1L (in) "Left input 1", 11 MIC1R/LINE1R (in) "Right input 1", 12 MIC2L/LINE2L (in) "Left input 2", 13 MIC2R/LINE2R (in) "Right input 2", 14 MIC3L/LINE3L/MICDET (in) "Left input 3; can support microphone detection", 15 MICBIAS (out) "Microphone bias voltage output", 16 MIC3R/LINE3R (in) "Right input 3", 17 AVSS1 (power) "Analog ADC ground supply, 0 V", 18 DRVDD (power) "Analog ADC and output driver voltage supply, 2.7 V-3.6 V", 19 HPLOUT (hiz) "High-power output driver (left +)", 20 HPLCOM (hiz) "High-power output driver (left - or multifunctional)", 21 DRVSS (power) "Analog output driver ground supply, 0 V", 22 HPRCOM (hiz) "High-power output driver (right - or multifunctional)", 23 HPROUT (hiz) "High-power output driver (right +)", 24 DRVDD (power) "Analog output driver voltage supply, 2.7 V-3.6 V", 25 AVDD (power) "Analog DAC voltage supply, 2.7 V-3.6 V", 26 AVSS2 (power) "Analog DAC ground supply, 0 V", 27 LEFT_LOP (hiz) "Left line output (+)", 28 LEFT_LOM (hiz) "Left line output (-)", 29 RIGHT_LOP (hiz) "Right line output (+)", 30 RIGHT_LOM (hiz) "Right line output (-)", 31 ~{RESET} (in) "Reset", 32 DVDD (power) "Digital core voltage supply, 1.525 V-1.95 V", 33 EP (power) "Exposed Thermal Pad"

## TLV320AIC3105IRHBT
designator U?
Low-Power Stereo CODEC with 6 Inputs, 6 Outputs, HP Amp and Enhanced Digital Effects, 2 ADCs and 2 DACs, 102 dB DAC SNR, -40 to 85 degC, 32-pin QFN (RHB), Green (RoHS & no Sb/Br); Manufacturer: Texas Instruments; PartNumber: TLV320AIC3105IRHBT; # ADCs (typ): 2; Additional Features: LP Bypass, Notch Filtering, 3D, EQ, Matrix Mixing, PLL; Battery Powered: TRUE; Control Interface: I2C; DAC SNR: 102; Digital Audio Interfaces: L, R, I2S, DSP, TDM; Sampling Rate (Max) (kHz): 96; DatasheetVersion: SLAS513B; PackageVersion: revD, Jun-2011; PackageReference: RHB32-3450X3450TP; PackageDescription: 32-Pin Plastic Quad Flat No-Lead, 5 x 5 mm Body, 0.5 mm Pitch, 3.45 x 3.45 mm Exposed Pad; Supplier 1: Digi-Key; Supplier Part Number 1: 296-22023-2-ND; Supplier 2: Digi-Key; Supplier Part Number 2: 296-22023-1-ND; Supplier 3: Digi-Key; Supplier Part Number 3: 296-22023-6-ND; Supplier 4: Newark; Supplier Part Number 4: 52M6080; Supplier 5: Mouser; Supplier Part Number 5: 595-TLV320C3105IRHBT; # DACs: 2; Mounting Technology: Surface Mount; Code_JEDEC: MO-220; ComponentLink1Description: Datasheet; ComponentLink1URL: http://www.ti.com/general/docs/lit/getliterature.tsp?genericPartNumber=TLV320AIC3105&fileType=pdf
footprint RHB32-3450X3450TP (QFN, 32-Leads, Body 5x5mm, Pitch 0.5mm, Thermal Pad 3.45x3.45mm, TI Recommended)
pins: 1 MCLK (in) "Master clock input", 2 BCLK (io) "Audio serial data bus bit clock input/output", 3 WCLK (io) "Audio serial data bus word clock input/output", 4 DIN (in) "Audio serial data bus data input", 5 DOUT (hiz) "Audio serial data bus data output", 6 DVSS (power) "Digital core / I/O ground supply, 0 V", 7 IOVDD (power) "Digital I/O voltage supply, 1.1 V-3.6 V", 8 SCL (in) "I2C serial clock input", 9 SDA (io) "I2C serial data input/output", 10 MIC1L/LINE1L (in) "Left input 1", 11 MIC1R/LINE1R (in) "Right input 1", 12 MIC2L/LINE2L (in) "Left input 2", 13 MIC2R/LINE2R (in) "Right input 2", 14 MIC3L/LINE3L/MICDET (in) "Left input 3; can support microphone detection", 15 MICBIAS (out) "Microphone bias voltage output", 16 MIC3R/LINE3R (in) "Right input 3", 17 AVSS1 (power) "Analog ADC ground supply, 0 V", 18 DRVDD (power) "Analog ADC and output driver voltage supply, 2.7 V-3.6 V", 19 HPLOUT (hiz) "High-power output driver (left +)", 20 HPLCOM (hiz) "High-power output driver (left - or multifunctional)", 21 DRVSS (power) "Analog output driver ground supply, 0 V", 22 HPRCOM (hiz) "High-power output driver (right - or multifunctional)", 23 HPROUT (hiz) "High-power output driver (right +)", 24 DRVDD (power) "Analog output driver voltage supply, 2.7 V-3.6 V", 25 AVDD (power) "Analog DAC voltage supply, 2.7 V-3.6 V", 26 AVSS2 (power) "Analog DAC ground supply, 0 V", 27 LEFT_LOP (hiz) "Left line output (+)", 28 LEFT_LOM (hiz) "Left line output (-)", 29 RIGHT_LOP (hiz) "Right line output (+)", 30 RIGHT_LOM (hiz) "Right line output (-)", 31 ~{RESET} (in) "Reset", 32 DVDD (power) "Digital core voltage supply, 1.525 V-1.95 V", 33 EP (power) "Exposed Thermal Pad"

## TLV320AIC3106IZQE
designator U?
Low-Power Stereo CODEC with 10 Inputs, 7 Outputs, HP Amplifier and Enhanced Digital Effects, 2 ADCs and 2 DACs, 102 dB DAC SNR, -40 to 85 degC, 80-pin BGA MICROSTAR JUNIOR (ZQE), Green (RoHS & no Sb/Br); Manufacturer: Texas Instruments; PartNumber: TLV320AIC3106IZQE; # ADCs (typ): 2; Additional Features: 3D, EQ, Matrix Mixing, PLL, Alt Audio Int., HS detect; Battery Powered: TRUE; Control Interface: SPI, I2C; DAC SNR: 102; Digital Audio Interfaces: L, R, I2S, DSP, TDM; Sampling Rate (Max) (kHz): 96; DatasheetVersion: SLAS509E; PackageVersion: revF, Jul-2011; PackageReference: ZQE80; PackageDescription: 80-Ball Plastic Ball Grid Array, 5 x 5 mm Body, 0.5 mm Pitch; Supplier 1: Digi-Key; Supplier Part Number 1: TLV320AIC3106IZQE-ND; Supplier 2: Newark; Supplier Part Number 2: 34M0121; Supplier 3: Mouser; Supplier Part Number 3: 595-TLV320A3106IZQE; # DACs: 2; Headphone Driver: TRUE; Mounting Technology: Surface Mount; Code_JEDEC: MO-225; ComponentLink1Description: Datasheet; ComponentLink1URL: http://www.ti.com/general/docs/lit/getliterature.tsp?genericPartNumber=TLV320AIC3106&fileType=pdf
footprint ZQE80 (BGA, 80-Leads, Body 5x5mm, Pitch 0.5mm)
part A pins: A1 MIC3R (in) "MIC3 input (right or multifunction)", A2 MICBIAS (out) "Microphone bias voltage output", A3 LINE2RM (in) "MIC2 or Line2 analog input (right - or multifunction)", A4 LINE2LP (in) "MIC2 or Line2 analog input (left + or multifunction)", A5 LINE1LM (in) "MIC1 or Line1 analog input (left - or multifunction)", A6 LINE1LP (in) "MIC1 or Line1 analog input (left + or multifunction)", A8 MFP2 (io) "Multifunction pin #2 - SPI MISO slave serial data output / GPOI", A9 MFP3 (in) "Multifunction pin #3 - SPI MOSI slave serial data input/GPI/audio serial data bus data input", B1 DRVDD (power) "ADC analog and output driver voltage supply,2.7V-3.6V", B2 MICDET (in) "Microphone detect", B3 MIC3L (in) "MIC3 input (left or multifunction)", B4 LINE2RP (in) "MIC2 or Line2 analog input (right + or multifunction)", B5 LINE2LM (in) "MIC2 or Line2 analog input (left - or multifunction)", B6 LINE1RM (in) "MIC1 or Line1 analog input (right - or multifunction)", B7 LINE1RP (in) "MIC1 or Line1 analog input (right + or multifunction)", B8 MFP0 (in) "Multifunction pin #0-SPI chip select /GPI/I2C address pi #0", B9 MFP1 (in) "Multifunction pin #1 - SPI serial clock / GPI / I2C address pin #1S", C1 DRVDD (power) "ADC analog and output driver voltage supply,2.7V-3.6V", C2 AVSS_ADC (power) "Analog ADC ground supply,0V", C8 SCL (io) "I2C serial clock/GPIO", C9 IOVDD (power) "I/O coltage supply,1.1V-3.6V", D1 HPLOUT (hiz) "High-power output driver (left+)", D2 AVSS_ADC (power) "Analog ADC ground supply,0V", D8 SDA (io) "I2C serial data input/output/GPIO", D9 DVSS (power) "Digital core/I/O ground supply,0V", E1 HPLCOM (hiz) "High-power output driver (left- or multifunction)", E2 DRVSS (power) "Analog output driver ground supply,0V", E8 SELECT (in) "control mode select pin(1=SPI,0=I2C)", E9 DIN (in) "Audio serial data bus input(input)", F1 HPRCOM (hiz) "High-power output driver (right- or multifunctional)", F2 DRVSS (power) "Analog output driver ground supply,0V", F8 DOUT (hiz) "Audio serial data bus data output (output)", F9 WCLK (io) "Audio serial data bus word clock (input/output)", G1 HPROUT (hiz) "High-power output driver (right+)", G2 AVSS_DAC (power) "Analog DAC ground supply,0V", G8 MCLK (in) "Master clock input", G9 BCLK (io) "Audio serial data bus bit clock(input/output)", H1 DRVDD (power) "ADC analog and output driver voltage supply,2.7V-3.6V", H2 AVSS_DAC (power) "Analog DAC ground supply,0V", H8 ~{RESET} (in) "Reset", H9 DVDD (power) "Digital core voltage supply,1.65V-1.95V", J1 AVDD_DAC (power) "Analog DAC voltage supply,2.7V-3.6V", J2 MONO_LOP (hiz) "Mono line output(+)", J3 MONO_LOM (hiz) "Mono line output(-)", J4 LEFT_LOP (hiz) "Left line output (+)", J5 LEFT_LOM (hiz) "Left line output (-)", J6 RIGHT_LOP (hiz) "Right line output(+)", J7 RIGHT_LOM (hiz) "Right line output(-)", J8 GPIO2 (io) "General-purpose input/output #2(input/output)/digital microphone data input/PLL clock input/audio serial data bus bit clock input/output", J9 GPIO1 (io) "General-purpose input/output #1(input/output)/PLL/clock mux output/short circuit interrupt/AGC noise flag/digital microphone clock audio serial data bus word clock input/output"
part B pins: A7 NC "No connect", C4 NC "Do not connect.", C5 NC "Do not connect.", C6 NC "Do not connect.", C7 NC "Do not connect.", D3 NC "Do not connect.", D4 NC "Do not connect.", D5 NC "Do not connect.", D6 NC "Do not connect.", D7 NC "Do not connect.", E3 NC "Do not connect.", E4 NC "Do not connect.", E5 NC "Do not connect.", E6 NC "Do not connect.", E7 NC "Do not connect.", F3 NC "Do not connect.", F4 NC "Do not connect.", F5 NC "Do not connect.", F6 NC "Do not connect.", F7 NC "Do not connect.", G3 NC "Do not connect.", G4 NC "Do not connect.", G5 NC "Do not connect.", G6 NC "Do not connect.", G7 NC "Do not connect.", H3 NC "Do not connect.", H4 NC "Do not connect.", H5 NC "Do not connect.", H6 NC "Do not connect.", H7 NC "Do not connect."